# EAGLE library part SN74AHC (library 000_CustomPartsMaster)
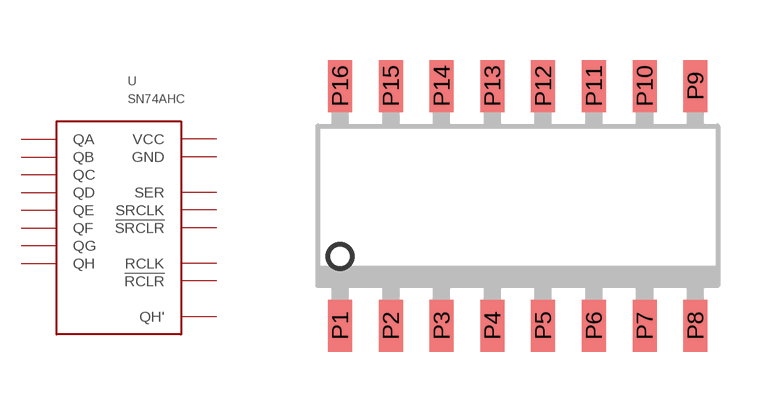
[diagram p18: symbol with the pads of SO16; footprint SO16]

Designator prefix -

## SN74AHC  [SO16]
P1  QB
P2  QC
P3  QD
P4  QE
P5  QF
P6  QG
P7  QH
P8  GND
P9  QH'
P10  !SRCLR
P11  SRCLK
P12  RCLK
P13  !RCLR
P14  SER
P15  QA
P16  VCC

## Footprint SO16 (pad centres in mm)
smd 0.6 x 1.3: P1 -4.445,-3; P2 -3.175,-3; P3 -1.905,-3; P4 -0.635,-3; P5 0.635,-3; P6 1.905,-3; P7 3.175,-3; P8 4.445,-3; P9 4.445,3; P10 3.175,3; P11 1.905,3; P12 0.635,3; P13 -0.635,3; P14 -1.905,3; P15 -3.175,3; P16 -4.445,3